# EAGLE library part 24* (library chipdesign2016)
Serial EEPROM I2C
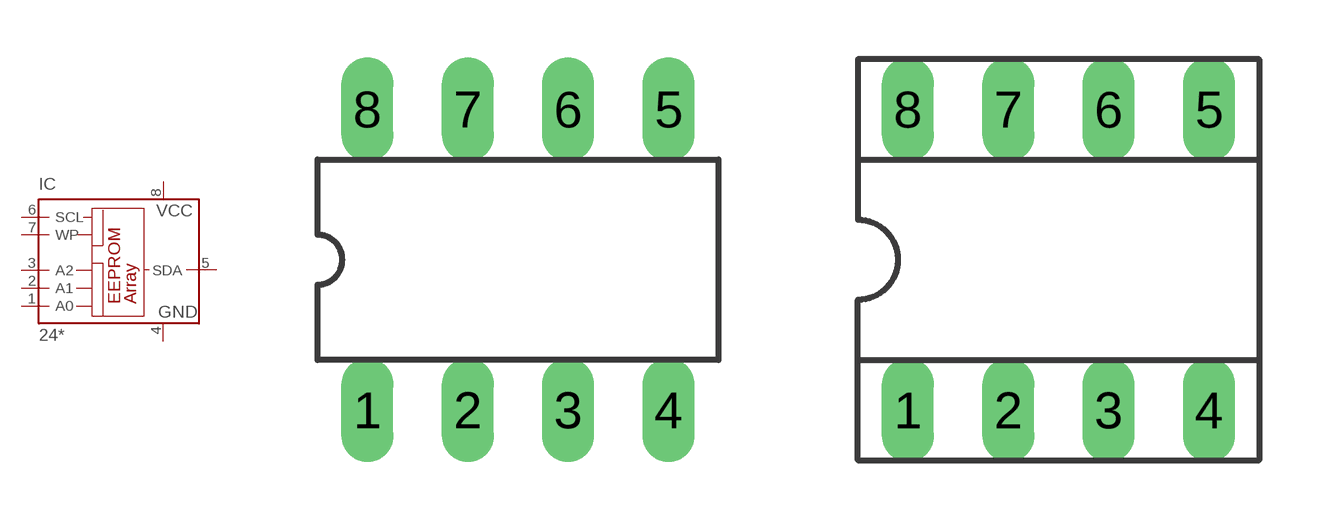
[diagram p4: symbol with the pads of DIL8; footprints DIL8, SOCKET-08]

Designator prefix IC

## 24AA01P (MPN: 24AA01-I/P; OC_FARNELL: 1331266; OC_NEWARK: 35M0692), 24AA02P (MPN: 24AA02-I/P; OC_FARNELL: 1331271; OC_NEWARK: 95M2072), 24AA04P (MPN: 24AA04-I/P; OC_FARNELL: 1331275; OC_NEWARK: 35M0696), 24AA08P (MF: MICROCHIP; MPN: 24AA08-I/P; OC_FARNELL: 1331281; OC_NEWARK: 92C6825), 24AA128P (MF: MICROCHIP; MPN: 24AA128-I/P; OC_FARNELL: unknown; OC_NEWARK: 92C6840), 24AA16P (MPN: 24AA16-I/P; OC_FARNELL: 1331287; OC_NEWARK: 35M0705), 24AA256P (MF: MICROCHIP; MPN: 24AA256-I/P; OC_FARNELL: 1331294; OC_NEWARK: 92C6872), 24AA32AP (MF: MICROCHIP; MPN: 24AA32A-I/P; OC_FARNELL: 1331297; OC_NEWARK: 92C6885), 24AA64P (MF: MICROCHIP; MPN: 24AA64-I/P; OC_FARNELL: 1331303; OC_NEWARK: 92C6909), 24C01AP (MPN: M24C01-WBN6P; OC_FARNELL: 9882782; OC_NEWARK: 24M5067), 24C02AP (MF: MICROCHIP; MPN: 24C02C-I/P; OC_FARNELL: 1755843; OC_NEWARK: 96K4062), 24C04AP (MF: RAMTRON INTERNATIONAL CORP; MPN: FM24C04A-P; OC_FARNELL: 1094258; OC_NEWARK: 97H6447), 24C08BP (MPN: AT24C08B-PU; OC_FARNELL: 1362644; OC_NEWARK: 50M3317), 24C16BP (MPN: AT24C16B-PU; OC_FARNELL: 1362650; OC_NEWARK: 50M3323), 24C32AP (MPN: AT24C32C-PU; OC_FARNELL: 1362652; OC_NEWARK: 50M3325), 24C64P (MF: RAMTRON INTERNATIONAL CORP; MPN: FM24C64-P; OC_FARNELL: 1362657; OC_NEWARK: 97H6452), 24CL04BP (OC_FARNELL: unknown; OC_NEWARK: unknown), 24LC01P (MPN: 24LC01BH-I/P; OC_FARNELL: 1200025; OC_NEWARK: 77M3542), 24LC024P (MPN: 24LC024-I/P; OC_FARNELL: 1331317; OC_NEWARK: 35M0731), 24LC025P (MF: MICROCHIP; MPN: 24LC025-I/P; OC_FARNELL: unknown; OC_NEWARK: 92C7098), 24LC04P (MF: MICROCHIP; MPN: 24LC04B-I/P; OC_FARNELL: 1196811; OC_NEWARK: 62K0576), 24LC08BP (MF: MICROCHIP; MPN: 24LC08B/P; OC_FARNELL: 1084245; OC_NEWARK: 96K4073), 24LC128P (MF: MICROCHIP; MPN: 24LC128-I/P; OC_FARNELL: 9757929; OC_NEWARK: 12C2007), 24LC16BP (MF: MICROCHIP; MPN: 24LC16B/P; OC_FARNELL: 1200026; OC_NEWARK: 69K7671), 24LC256P (MF: MICROCHIP; MPN: 24LC256-E/P; OC_FARNELL: 9757970; OC_NEWARK: 92C7169), 24LC32AP (MF: MICROCHIP; MPN: 24LC32A/P; OC_FARNELL: 1084246; OC_NEWARK: 75K1884), 24LC64P (MF: MICROCHIP; MPN: 24LC64-I/P; OC_FARNELL: 9758054; OC_NEWARK: 62K0584), 24LCS52P (MF: MICROCHIP; MPN: 24LCS52-I/PG; OC_FARNELL: unknown; OC_NEWARK: 89H3098)  [DIL8]
1  A0  in
2  A1  in
3  A2  in
4  GND  pwr
5  SDA
6  SCL  in
7  WP  in
8  VCC  pwr

## 24P-SOCKET (MF: MICROCHIP; MPN: 24LC64-I/P; OC_FARNELL: 9758054; OC_NEWARK: 62K0584), 24LC64P-SOCKET (MF: MICROCHIP; MPN: 24LC64-I/P; OC_FARNELL: 9758054; OC_NEWARK: 62K0584)  [SOCKET-08]
Pads as for DIL8

## Footprint DIL8 (pad centres in mm)
Dual In Line package type P
drill 0.813 long: 1 -3.81,-3.81; 2 -1.27,-3.81; 3 1.27,-3.81; 4 3.81,-3.81; 5 3.81,3.81; 6 1.27,3.81; 7 -1.27,3.81; 8 -3.81,3.81

## Footprint SOCKET-08 (pad centres in mm)
Dual In Line Socket
drill 0.813 long: 1 -3.81,-3.81; 2 -1.27,-3.81; 3 1.27,-3.81; 4 3.81,-3.81; 5 3.81,3.81; 6 1.27,3.81; 7 -1.27,3.81; 8 -3.81,3.81